# EAGLE library part 653114124022 (library Wuerth_Elektronik_eiCan_Wire_to_Board_Connectors v1.2)
WR-WTB 1.25mm SMT Male Vertical Shrouded Header, 14 Pins
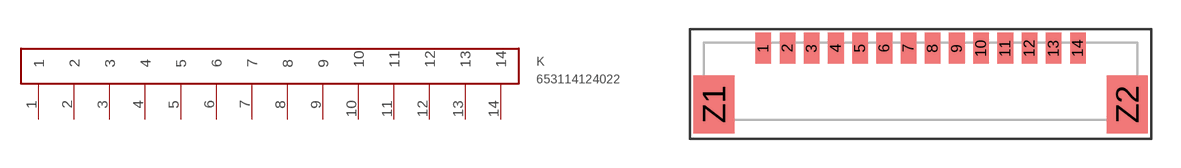
[diagram p61: symbol with the pads of 653114124022; footprint 653114124022]

Designator prefix K

## 653114124022  [653114124022]
1  1
2  2
3  3
4  4
5  5
6  6
7  7
8  8
9  9
10  10
11  11
12  12
13  13
14  14

## Footprint 653114124022 (pad centres in mm)
WR-WTB 1.25mm SMT Male Vertical Shrouded Header, 14 Pins
smd 0.81 x 1.6: 1 -0.625,0; 2 0.625,0; 3 1.875,0; 4 3.125,0; 5 4.375,0; 6 5.625,0; 7 6.875,0; 8 8.125,0; 9 9.375,0; 10 10.625,0; 11 11.875,0; 12 13.125,0; 13 14.375,0; 14 15.625,0
smd 2.1 x 3: Z1 -3.175,-2.9; Z2 18.175,-2.9